# EAGLE library part DS1100L (library meng)
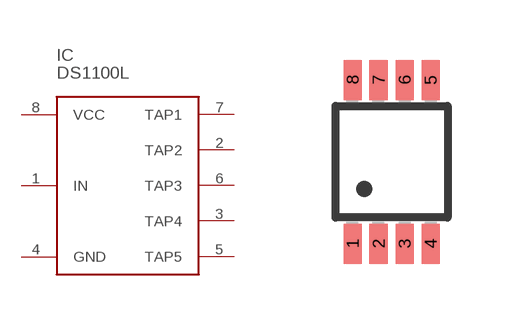
[diagram p5: symbol with the pads of MSOP8; footprint MSOP8]

Designator prefix IC

## DS1100L  [MSOP8]
1  IN
2  TAP2
3  TAP4
4  GND
5  TAP5
6  TAP3
7  TAP1
8  VCC

## Footprint MSOP8 (pad centres in mm)
Micro Small Outline Package Grid .65mm
smd 0.45 x 1: 1 -0.975,-2.05; 2 -0.325,-2.05; 3 0.325,-2.05; 4 0.975,-2.05; 5 0.975,2.05; 6 0.325,2.05; 7 -0.325,2.05; 8 -0.975,2.05